# EAGLE library part KEM5161 (library __MyCommonLib1)
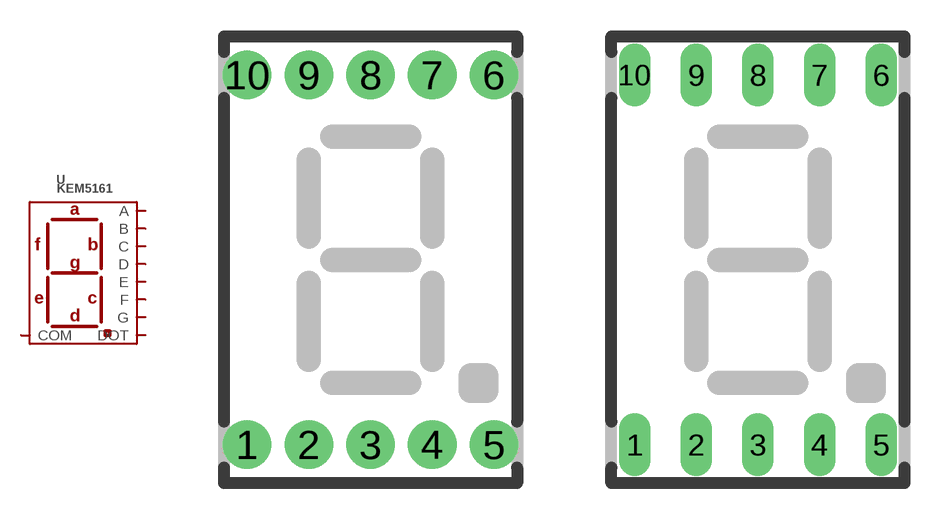
[diagram p9: symbol with the pads of KEM-5161; footprints KEM-5161, KEM-5161(NARROW)]

Designator prefix -

## KEM5161(KEM5161)  [KEM-5161]
1  E  pas
2  D  pas
3  COM  pas
4  C  pas
5  DOT  pas
6  B  pas
7  A  pas
8  COM  pas
9  F  pas
10  G  pas

## KEM5161(NARROW)  [KEM-5161(NARROW)]
Pads as for KEM-5161

## KEM5161(NARROW_PADS_OUTSIDE)  [KEM-5161(NARROW_PADS_OUTSIDE)]
Pads as for KEM-5161

## Footprint KEM-5161 (pad centres in mm)
drill 0.8 pad 2: 1 -5.08,-7.62; 2 -2.54,-7.62; 3 0,-7.62; 4 2.54,-7.62; 5 5.08,-7.62; 6 5.08,7.62; 7 2.54,7.62; 8 0,7.62; 9 -2.54,7.62; 10 -5.08,7.62

## Footprint KEM-5161(NARROW) (pad centres in mm)
drill 0.6 pad 1.3 long: 1 -5.08,-7.62; 2 -2.54,-7.62; 3 0,-7.62; 4 2.54,-7.62; 5 5.08,-7.62; 6 5.08,7.62; 7 2.54,7.62; 8 0,7.62; 9 -2.54,7.62; 10 -5.08,7.62

## Footprint KEM-5161(NARROW_PADS_OUTSIDE) (pad centres in mm)
drill 0.6 pad 1.3 offset: 1 -5.08,-7.62; 2 -2.54,-7.62; 3 0,-7.62; 4 2.54,-7.62; 5 5.08,-7.62; 6 5.08,7.62; 7 2.54,7.62; 8 0,7.62; 9 -2.54,7.62; 10 -5.08,7.62